# Altium schematic symbol library RCV2512100KFKEGAT.SchLib: 1 symbol
Pins are listed as number, name and electrical type; pins without a type are passive.

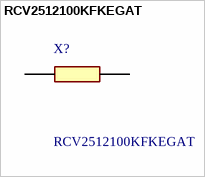
[diagram p0: symbol RCV2512100KFKEGAT]

## RCV2512100KFKEGAT
designator X?
100 kOhms +/-1% 1W Chip Resistor 2512 (6432 Metric) Automotive AEC-Q200, High Voltage Thick Film; Manufacturer_Name: Vishay; Geometry.Height: 0.7mm; Mouser Part Number: 71-RCV2512100KFKEGAT; Mouser Price/Stock: https://www.mouser.co.uk/ProductDetail/Vishay-Draloric/RCV2512100KFKEGAT?qs=DRkmTr78QATSFL7tjoIc2A%3D%3D; Manufacturer_Part_Number: RCV2512100KFKEGAT; Datasheet Link: https://www.vishay.com/docs/20082/rcvat-e3.pdf
footprint RESC6332X70N
pins: 1, 2